# EAGLE library part MOLEX_095540-6886 (library isystems)
MOLEX 95540 8P8C Right Angle Low Profile Shielded PC Jack Height: 11.50 mm Specs based on Datasheet Rev. D 2004/04/02 http://www.molex.com/pdm_docs/sd/955406888_sd.pdf
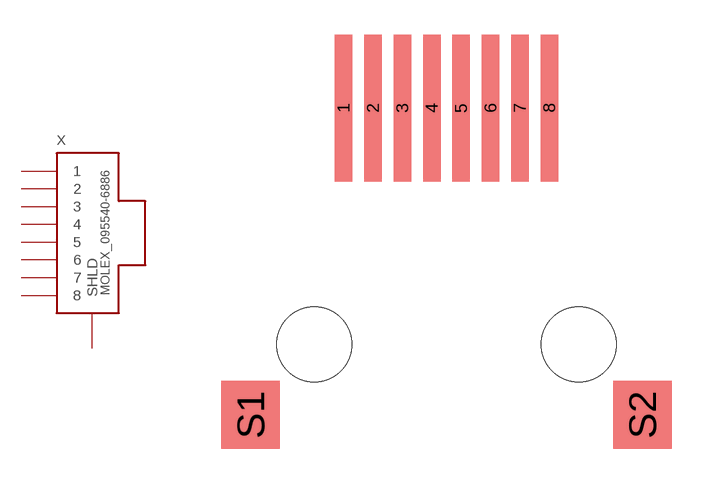
[diagram p39: symbol with the pads of MOLEX_95540; footprint MOLEX_95540]

Designator prefix X

## MOLEX_095540-6886  [MOLEX_95540]
1  1
2  2
3  3
4  4
5  5
6  6
7  7
8  8
S1  SHLD  pwr
S2  SHLD  pwr

## Footprint MOLEX_95540 (pad centres in mm)
MOLEX 95540 8P8C Right Angle Low Profile Shielded PC Jack Package drawn after Datasheet Rev. D 2004/04/02 http://www.molex.com/pdm_docs/sd/955406888_sd.pdf
smd 0.76 x 6.35: 1 -4.445,10.225; 2 -3.175,10.225; 3 -1.905,10.225; 4 -0.635,10.225; 5 0.635,10.225; 6 1.905,10.225; 7 3.175,10.225; 8 4.445,10.225
smd 2.54 x 2.94: S1 -8.465,-3.05; S2 8.465,-3.05
hole 3.25 at -5.715,0
hole 3.25 at 5.715,0